# Altium schematic symbol library FH12-16S-0P5SV.SchLib: 2 symbols
Pins are listed as number, name and electrical type; pins without a type are passive.

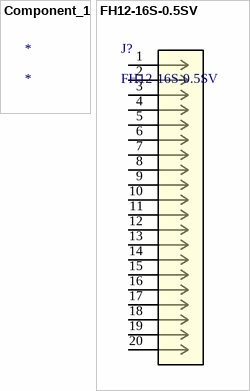
[diagram p0: symbols Component_1 to FH12-16S-0.5SV]

## Component_1
designator *

## FH12-16S-0.5SV
designator J?
No Description Available; Mfr_Name: Hirose; Copyright: Copyright (C) 2022 Ultra Librarian. All rights reserved.; Manufacturer_Part_Number: FH12-16S-0.5SV; RefDes: RefDes; Type: DEV
footprint CON16_1X16_DUTB_HRS_HIR
pins: 1, 2, 3, 4, 5, 6, 7, 8, 9, 10, 11, 12, 13, 14, 15, 16, 17, 18, 19, 20